# EAGLE library part BP2325 (library dword1511-pmic-dcdc)
Non-isolated Buck Offline LED Driver
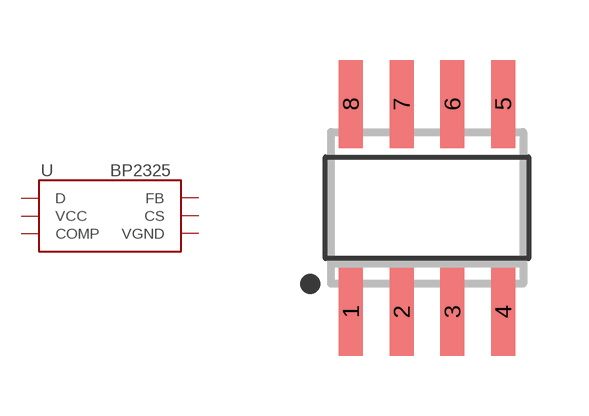
[diagram p17: symbol with the pads of SOIC-8; footprint SOIC-8]

Designator prefix U

## BP2325, BP2325A  [SOIC-8]
1  COMP  out
2  VGND  pwr
3  VCC  pwr
4  FB  in
5  D  pwr
6  D  pwr
7  CS  out
8  CS  out

## Footprint SOIC-8 (pad centres in mm)
smd 0.6 x 2.2: 1 -1.905,-2.6; 2 -0.635,-2.6; 3 0.635,-2.6; 4 1.905,-2.6; 5 1.905,2.6; 6 0.635,2.6; 7 -0.635,2.6; 8 -1.905,2.6